# EAGLE library part TPA301 (library balmer)
Power Audio Amplifier 350 mW
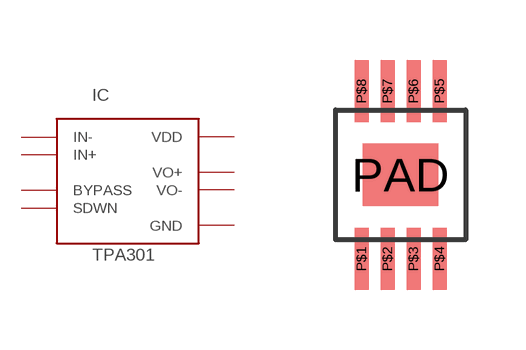
[diagram p23: symbol with the pads of MSOP8(POWERPAD); footprint MSOP8(POWERPAD)]

Designator prefix IC

## TPA301  [MSOP8(POWERPAD)]
P$1  SDWN
P$2  BYPASS
P$3  IN+
P$4  IN-
P$5  VO+
P$6  VDD
P$7  GND
P$8  VO-
PAD  GND

## Footprint MSOP8(POWERPAD) (pad centres in mm)
smd 0.35 x 1.55: P$1 -0.975,-2.1; P$2 -0.325,-2.1; P$3 0.325,-2.1; P$4 0.975,-2.1; P$5 0.975,2.1; P$6 0.325,2.1; P$7 -0.325,2.1; P$8 -0.975,2.1
smd 1.89 x 1.57: PAD 0,0